# Altium integrated library ES3B.IntLib: 1 symbol
Pins are listed as number, name and electrical type; pins without a type are passive.

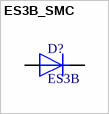
[diagram p0: symbol ES3B_SMC]

## ES3B_SMC
designator D?, comment ES3B
Diode Standard 100V 3A Surface Mount SMA _DO-214AB_; MP: ES1B; MF: ON Semiconductor; Package: DO-214 Fairchild Semiconductor; SnapEDA_Link: https://www.snapeda.com/parts/ES1B/ON%20Semiconductor/view-part/560187/?ref=snap; Value: *; Availability: Unavailable; Price: None
footprint SMA
pins: A, K